# Altium schematic symbol library ONSemi.SchLib: 4 symbols
Pins are listed as number, name and electrical type; pins without a type are passive.

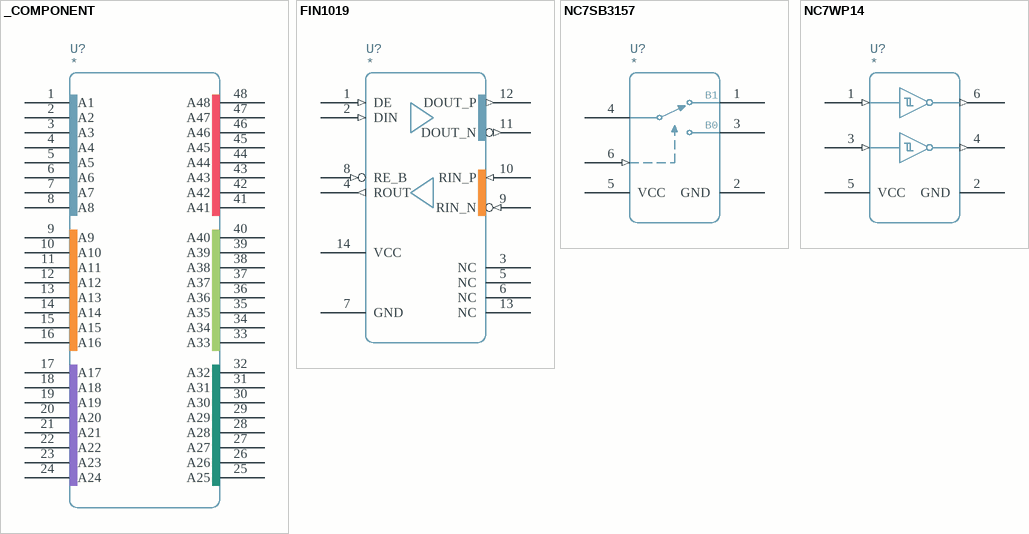
[diagram p0: symbols _COMPONENT to NC7WP14]

## _COMPONENT
designator U?
pins: 1 A1, 2 A2, 3 A3, 4 A4, 5 A5, 6 A6, 7 A7, 8 A8, 9 A9, 10 A10, 11 A11, 12 A12, 13 A13, 14 A14, 15 A15, 16 A16, 17 A17, 18 A18, 19 A19, 20 A20, 21 A21, 22 A22, 23 A23, 24 A24, 25 A25, 26 A26, 27 A27, 28 A28, 29 A29, 30 A30, 31 A31, 32 A32, 33 A33, 34 A34, 35 A35, 36 A36, 37 A37, 38 A38, 39 A39, 40 A40, 41 A41, 42 A42, 43 A43, 44 A44, 45 A45, 46 A46, 47 A47, 48 A48

## FIN1019
designator U?
pins: 1 DE (in), 2 DIN (in), 3 NC, 4 ROUT (out), 5 NC, 6 NC, 7 GND, 8 RE_B (in), 9 RIN_N (in), 10 RIN_P (in), 11 DOUT_N (out), 12 DOUT_P (out), 13 NC, 14 VCC

## NC7SB3157
designator U?
pins: 1 B1, 2 GND, 3 B0, 4 A, 5 VCC, 6 S (in)

## NC7WP14
designator U?
footprint SOT_363 (6-Lead SC70)
pins: 1 A1 (in), 2 GND, 3 A2 (in), 4 Y2 (out), 5 VCC, 6 Y1 (out)